# EAGLE library part SAM4S16B-48 (library pimoroni)
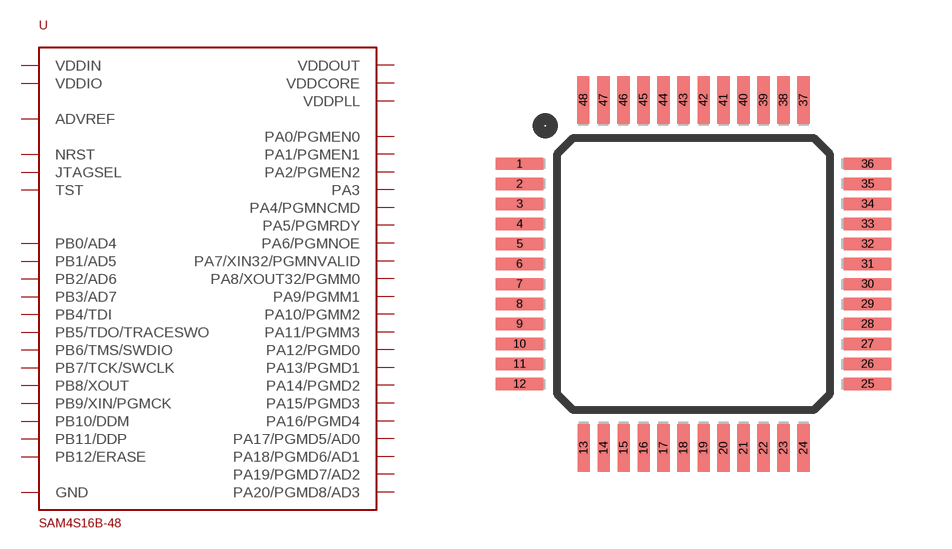
[diagram p57: symbol with the pads of LQFP-48; footprint LQFP-48]

Designator prefix -

## SAM4S16B-48  [LQFP-48]
1  ADVREF
2  GND
3  PB0/AD4
4  PB1/AD5
5  PB2/AD6
6  PB3/AD7
7  VDDIN
8  VDDOUT
9  PA17/PGMD5/AD0
10  PA18/PGMD6/AD1
11  PA19/PGMD7/AD2
12  PA20/PGMD8/AD3
13  VDDIO
14  PA16/PGMD4
15  PA15/PGMD3
16  PA14/PGMD2
17  PA13/PGMD1
18  VDDCORE
19  PA12/PGMD0
20  PA11/PGMM3
21  PA10/PGMM2
22  PA9/PGMM1
23  PA8/XOUT32/PGMM0
24  PA7/XIN32/PGMNVALID
25  PB4/TDI
26  PA6/PGMNOE
27  PA5/PGMRDY
28  PA4/PGMNCMD
29  NRST
30  TST
31  PA3
32  PA2/PGMEN2
33  VDDIO
34  GND
35  PA1/PGMEN1
36  PA0/PGMEN0
37  PB5/TDO/TRACESWO
38  JTAGSEL
39  PB6/TMS/SWDIO
40  PB7/TCK/SWCLK
41  VDDCORE
42  PB12/ERASE
43  PB10/DDM
44  PB11/DDP
45  PB8/XOUT
46  PB9/XIN/PGMCK
47  VDDIO
48  VDDPLL

## Footprint LQFP-48 (pad centres in mm)
smd 1.2 x 0.3: 1 -4.345,2.745; 2 -4.345,2.245; 3 -4.345,1.745; 4 -4.345,1.245; 5 -4.345,0.745; 6 -4.345,0.245; 7 -4.345,-0.255; 8 -4.345,-0.755; 9 -4.345,-1.255; 10 -4.345,-1.755; 11 -4.345,-2.255; 12 -4.345,-2.755; 25 4.355,-2.755; 26 4.355,-2.255; 27 4.355,-1.755; 28 4.355,-1.255; 29 4.355,-0.755; 30 4.355,-0.255; 31 4.355,0.245; 32 4.355,0.745; 33 4.355,1.245; 34 4.355,1.745; 35 4.355,2.245; 36 4.355,2.745
smd 0.3 x 1.2: 13 -2.74,-4.355; 14 -2.24,-4.355; 15 -1.74,-4.355; 16 -1.24,-4.355; 17 -0.745,-4.355; 18 -0.245,-4.355; 19 0.255,-4.355; 20 0.755,-4.355; 21 1.255,-4.355; 22 1.755,-4.355; 23 2.255,-4.355; 24 2.755,-4.355; 37 2.755,4.345; 38 2.255,4.345; 39 1.755,4.345; 40 1.255,4.345; 41 0.755,4.345; 42 0.255,4.345; 43 -0.245,4.345; 44 -0.745,4.345; 45 -1.245,4.345; 46 -1.745,4.345; 47 -2.245,4.345; 48 -2.745,4.345